# Altium footprint library Connect.PcbLib: 69 footprints (part 4 of 5)
Each footprint in its own frame and in the unit in brackets; x right, y up, seen from the top. Pads: shape width x height; smd on the part's side, far side on the other; paste and mask are expansions set on the pad; w line width, h text height; cw(c..) or ccw(c..) is an arc to the next point about the centre after c.
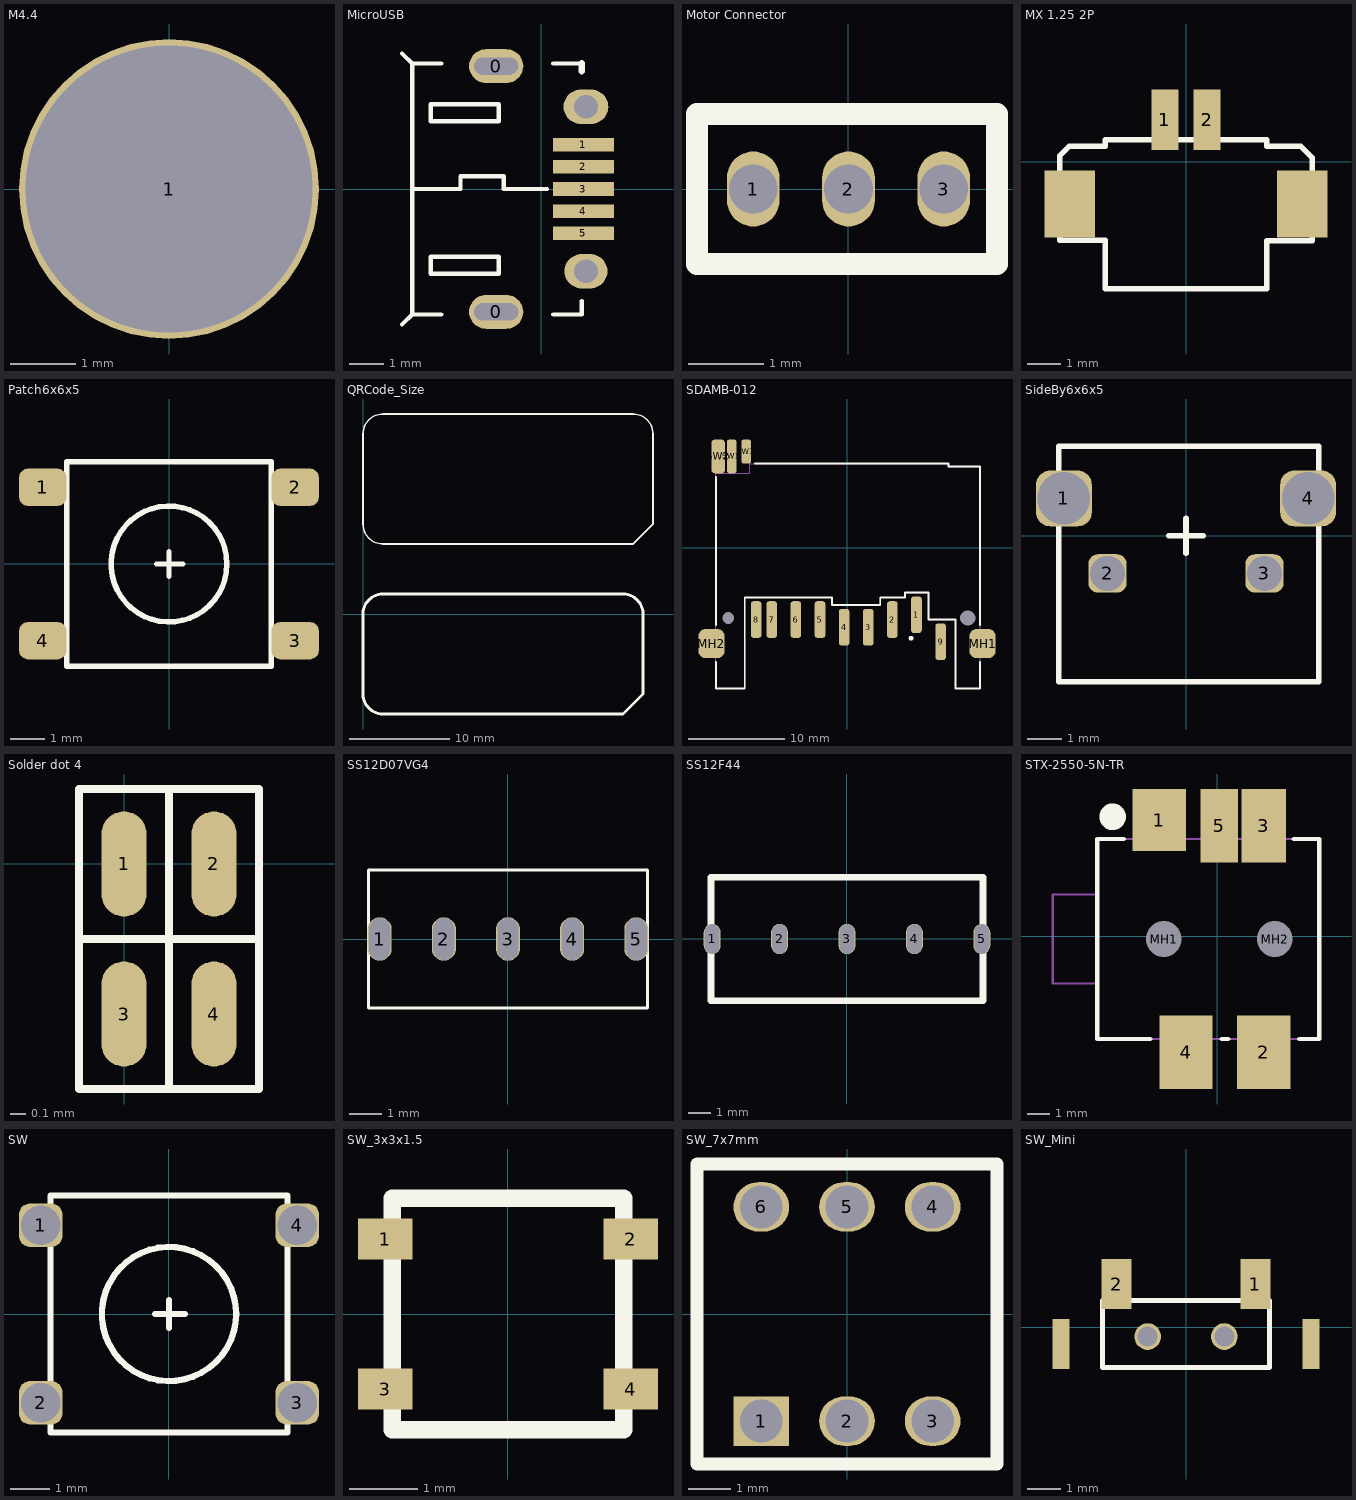
[diagram p3: the footprints below, top view; thin cyan lines are the x and y axes]

## M4.4 [mm]
pads (1):
  round 4.6 hole 4.4: 1(0,0)

## MicroUSB [mm]
pads (9):
  oval 1.6x1 hole 0.5 slot 1.3 at 0 deg unplated: 0(-1.325,-3.625) 0(-1.325,3.625)
  rect 1.8x0.4 smd: 1(1.25,1.3) 2(1.25,0.65) 3(1.25,0) 4(1.25,-0.65) 5(1.25,-1.3)
  oval 1.27x1.016 hole 0.7 unplated: ""(1.325,-2.425)
  oval 1.321x1.016 hole 0.7 unplated: ""(1.325,2.425)
Top Overlay:
  lines w0.127: -4.1,-4 -3.8,-3.7 ; -4.1,4 -3.8,3.7 ; -2.941,-3.7 -3.8,-3.7 ; -2.941,3.7 -3.8,3.7 ; -2.375,0.025 -2.375,0 ; 0.175,0 -1.1,0 -1.1,0.375 -2.375,0.375 -2.375,0 ; 0.361,-3.7 1.2,-3.7 1.2,-3.302 ; 0.361,3.7 1.2,3.7 ; -3.8,-3.7 -3.8,0 ; -3.8,0 -3.8,3.7 ; -3.8,0 -2.375,0 ; -3.25,-2.5 -3.25,-2 -1.25,-2 -1.25,-2.5 -3.25,-2.5 ; -3.25,2 -1.25,2 -1.25,2.5 -3.25,2.5 -3.25,2
  lines w0.2: 1.2,3.479 1.2,3.7
3D body: height 2.99, standoff 0.05, extent -3.62,-3.96 1.81,4.02

## Motor Connector [mm]
pads (3):
  oval 0.7x1 hole 0.65: 1(-1.27,0) 2(0,0) 3(1.27,0)
Top Overlay:
  lines w0.3: -2.02,-1 1.98,-1 1.98,1 -2.02,1 -2.02,-1

## MX 1.25 2P [mm]
pads (4):
  rect 0.8x1.8 smd: 1(-0.625,1.25) 2(0.625,1.25)
  rect 1.5x2 smd: ""(-3.45,-1.25) ""(3.45,-1.25)
Top Overlay:
  lines w0.16: -3.75,-2.32 -3.75,0.18 -3.47,0.46 -2.4,0.46 -2.4,0.66 2.4,0.66 2.4,0.46 3.41,0.46 3.75,0.12 3.75,-2.34 2.4,-2.34 2.4,-3.76 -2.4,-3.76 -2.4,-2.32 -3.75,-2.32
3D body: height 3.5, standoff 0, extent 2.21,-3.79 2.4,-2.35
3D body: height 3.5, standoff 3.3, extent -2.41,-3.79 2.4,0.66
3D body: height 0.2, standoff 0, extent -2.41,-3.79 2.4,0.66
3D body: height 0.8, standoff 0, extent -0.77,0.73 -0.47,1.66
3D body: height 0.8, standoff 0, extent 0.48,0.735 0.78,1.665
3D body: height 3.5, standoff 0, extent -2.41,0.38 2.39,0.66
3D body: height 3.5, standoff 0, extent -3.74,-2.35 -2.306,0.49
3D body: height 3.5, standoff 0, extent 2.4,-2.35 3.75,0.46
3D body: height 2.6, standoff 2.1, extent -0.77,-3.11 -0.47,0.73
3D body: height 2.6, standoff 2.1, extent 0.48,-3.12 0.78,0.72
3D body: height 3.5, standoff 0, extent -2.4,-3.79 -2.21,-2.35

## Patch6x6x5 [mm]
pads (4):
  rrect50% 1.4x1.1 smd: 1(-3.7,2.25) 2(3.7,2.25) 3(3.7,-2.25) 4(-3.7,-2.25)
Top Overlay:
  circle w0.16: c0,0 r1.7
  lines w0.16: -0.356,0 0.402,0 ; 0,-0.356 0,0.356 ; -3,-3 3,-3 3,3 -3,3 -3,-3
3D body: height 0.4, standoff 0, extent -4.134,-2.549 -3.536,-1.951
3D body: height 3, standoff 0, extent -2.997,-2.997 2.997,2.997
3D body: height 5, standoff 3, extent -1.488,-1.497 1.5,1.497
3D body: height 1.3, standoff 0, extent -3.549,-2.549 -2.951,-1.951
3D body: height 1.3, standoff 0, extent -3.549,1.951 -2.951,2.549
3D body: height 0.4, standoff 0, extent -4.134,1.951 -3.536,2.549
3D body: height 1.3, standoff 0, extent 2.933,1.936 3.531,2.535
3D body: height 0.4, standoff 0, extent 3.537,1.936 4.134,2.535
3D body: height 1.3, standoff 0, extent 2.933,-2.535 3.531,-1.936
3D body: height 0.4, standoff 0, extent 3.537,-2.535 4.134,-1.936

## QRCode_Size [mm]
Top Overlay:
  lines w0.15: 27,7 29,9
  lines w0.152: 27,7 2,7 cw(c2,9) 0,9 0,18 cw(c2,18) 2,20 27,20 cw(c27,18) 29,18 29,9
  lines w0.3: 0,-8 ccw(c2,-8) 2,-10 26,-10 28,-8 28,0 ccw(c26,0) 26,2 2,2 ccw(c2,0) 0,0 0,-8

## SDAMB-012 [mm] "Card Type A, SM, 9 Position, Right Angle, Pitch 2.5 mm, Body 23.3 x 27.4 x 3.4 mm (LxWxH)"
height 5.918
pads (16):
  rrect50% 1.1x3.79 smd paste+0.038 mask+0.038: 1(7.2,-6.955) 2(4.7,-7.455) 3(2.2,-8.255) 4(-0.3,-8.255) 5(-2.8,-7.455) 6(-5.3,-7.455) 7(-7.8,-7.455) 8(-9.425,-7.455) 9(9.7,-9.755)
  rrect50% 2.7x3 smd paste+0.038 mask+0.038: MH1(14.05,-9.95) MH2(-14.05,-9.95)
  round 0.9 hole 1.2 unplated paste+0.038 mask+0.038: MH3(-12.3,-7.3)
  round 1.3 hole 1.6 unplated paste+0.038 mask+0.038: MH4(12.5,-7.3)
  rrect50% 1x3.5 smd paste+0.038 mask+0.038: SW1(-11.95,9.45)
  rrect50% 1.4x3.5 smd paste+0.038 mask+0.038: SW2(-13.35,9.45)
  rrect50% 1x2.5 smd paste+0.038 mask+0.038: SW3(-10.45,9.95)
Top Overlay:
  circle w0.25: c6.65,-9.4 r0.125
  lines w0.2: -13.6,-11.85 -13.6,-14.6 -10.6,-14.6 -10.6,-5.155 -1.55,-5.155 -1.55,-5.955 3.45,-5.955 3.45,-5.155 6,-5.155 6,-4.655 8.45,-4.655 8.45,-7.455 11.25,-7.455 11.25,-14.6 13.8,-14.6 13.8,-11.85 ; -13.6,-8.05 -13.6,7.3 ; -9.55,8.7 10.5,8.7 10.5,8.4 13.8,8.4 13.8,-8.05
Mechanical 13:
  lines w0.1: -10.1,7.695 -10.1,8.695 ; -10.1,7.7 -13.6,7.7 -13.6,-14.6 -10.6,-14.6 -10.6,-5.155 -1.55,-5.155 -1.55,-5.955 3.45,-5.955 3.45,-5.155 6,-5.155 6,-4.655 8.45,-4.655 8.45,-7.455 11.25,-7.455 11.25,-14.6 13.8,-14.6 13.8,8.4 10.5,8.4 10.5,8.7 -10.1,8.7
3D body: height 2.79, standoff 0, extent -13.599,-14.599 13.799,8.699
3D body: height 0.03, standoff 0, extent -12.803,-14.707 12.802,3.353

## SideBy6x6x5 [mm]
pads (4):
  rrect50% 1.6x1.6 hole 1.5: 1(-3.5,1.075) 4(3.5,1.075)
  rrect50% 1.1x1.1 hole 1: 2(-2.25,-1.075) 3(2.25,-1.075)
Top Overlay:
  lines w0.16: -1.702,-4.175 cw(c-1.706,-4.179) -1.7,-4.179 ; -0.5,0 0.5,0 ; 0,-0.5 0,0.5 ; 1.7,-4.179 cw(c1.706,-4.179) 1.702,-4.175 ; -3.65,-4.175 -3.65,2.575 3.8,2.575 3.8,-4.175 -3.65,-4.175
3D body: height 1.3, standoff 0, extent -3.799,0.776 -3.201,1.374
3D body: height 1.3, standoff 0, extent -2.549,-1.374 -1.951,-0.776
3D body: height 1.3, standoff 0, extent 3.201,0.776 3.799,1.374
3D body: height 1.3, standoff 0, extent 1.951,-1.374 2.549,-0.776
3D body: height 4.69, standoff 1.3, extent -1.666,-4.922 1.727,-4.222
3D body: height 6, standoff 0, extent -3.632,-4.191 3.785,2.565

## Solder dot 4 [mm]
pads (4):
  oval 0.3x0.7 smd: 1(0,0) 2(0.6,0) 3(0,-1) 4(0.6,-1)
Top Overlay:
  lines w0.051: -0.3,-0.5 0.9,-0.5 ; 0.3,-1.5 0.3,0.5 ; -0.3,-1.5 -0.3,0.5 0.9,0.5 0.9,-1.5 -0.3,-1.5

## SS12D07VG4 [mm]
pads (5):
  oval 0.75x1.35 hole 0.65 slot 1.3 at 90 deg: 1(-4,0) 2(-2,0) 3(0,0) 4(2,0) 5(4,0)
Top Overlay:
  lines w0.102: -4.35,-2.15 -4.35,2.15 4.35,2.15 4.35,-2.15 -4.35,-2.15
3D body: height 5.9, standoff 4.7, extent -2.006,-0.992 0.002,1.024
3D body: height 4.7, standoff 0, extent -4.351,-2.151 4.354,2.146

## SS12F44 [mm]
pads (5):
  oval 0.75x1.35 hole 0.65 slot 1.3 at 90 deg: 1(-6,0) 2(-3,0) 3(0,0) 4(3,0) 5(6,0)
Top Overlay:
  lines w0.3: -6.05,-2.75 6.05,-2.75 6.05,2.75 -6.05,2.75 -6.05,-2.75
3D body: height 11, standoff 6, extent -3,-1.342 0,1.284
3D body: height 6, standoff 0, extent -6.05,-2.75 6.05,2.75

## STX-2550-5N-TR [mm] "STX-2550 Series Surface Mount 2.5mm Audio Jack"
pads (7):
  rect 2.4x2.8 smd paste+0.038 mask+0.038: 1(-2.6,5.225)
  rect 2.4x3.3 smd paste+0.038 mask+0.038: 2(2.1,-5.225) 4(-1.4,-5.225)
  rect 2x3.3 smd paste+0.038 mask+0.038: 3(2.1,4.975)
  rect 1.7x3.3 smd paste+0.038 mask+0.038: 5(0.1,4.975)
  round 1.3 hole 1.6 unplated paste+0.038 mask+0.038: MH1(-2.4,-0.125) MH2(2.6,-0.125)
Top Overlay:
  circle w0.6: c-4.7,5.375 r0.3
  lines w0.2: -4.2,4.375 -5.4,4.375 -5.4,2.125 -5.4,-2.375 -5.4,-4.625 -3,-4.625 ; 0.2,-4.625 0.5,-4.625 ; 3.446,4.375 4.6,4.375 4.6,-4.625 3.7,-4.625
Mechanical 13:
  lines w0.1: -5.4,-4.525 -5.3,-4.625 ; -7.4,-2.125 -7.4,1.875 -5.4,1.875 -5.4,4.375 4.6,4.375 4.6,-4.625 -5.4,-4.625 -5.4,-2.125 -7.4,-2.125
3D body: height 3.5, standoff 0, extent -5.364,0.104 -1.407,4.315
3D body: height 2, standoff 0, extent -7.272,-1.997 -3.387,1.895
3D body: height 4, standoff 0, extent -5.408,-4.618 4.587,4.32

## SW [mm]
pads (4):
  rrect50% 1.1x1.1 hole 1: 1(-3.25,2.25) 2(-3.25,-2.25) 3(3.25,-2.25) 4(3.25,2.25)
Top Overlay:
  circle w0.16: c0,0 r1.7
  lines w0.16: -0.356,0 0.402,0 ; 0,-0.356 0,0.356 ; -3,-3 3,-3 3,3 -3,3 -3,-3
3D body: height 1.3, standoff 0, extent -3.549,1.951 -2.951,2.549
3D body: height 3, standoff 0, extent -2.997,-2.997 2.997,2.997
3D body: height 5, standoff 3, extent -1.488,-1.497 1.5,1.497
3D body: height 1.3, standoff 0, extent 2.951,1.951 3.549,2.549
3D body: height 1.3, standoff 0, extent 2.951,-2.549 3.549,-1.951
3D body: height 1.3, standoff 0, extent -3.549,-2.549 -2.951,-1.951

## SW_3x3x1.5 [mm]
pads (4):
  rect 0.8x0.6 smd: 1(-1.8,1.1) 2(1.8,1.1) 3(-1.8,-1.1) 4(1.8,-1.1)
Top Overlay:
  lines w0.254: -1.7,-1.7 1.7,-1.7 1.7,1.7 -1.7,1.7 -1.7,-1.7
3D body: height 1.2, standoff 0, extent -1.7,-1.7 1.7,1.7
3D body: height 1.5, standoff 1.2, extent -0.893,-0.898 0.9,0.898

## SW_7x7mm [mm]
pads (6):
  rect 1.3x1.15 hole 1: 1(-2,-2.5)
  oval 1.3x1.15 hole 1: 2(0,-2.5) 3(2,-2.5) 4(2,2.5) 5(0,2.5) 6(-2,2.5)
Top Overlay:
  lines w0.3: -3.5,-3.5 -3.5,3.5 3.5,3.5 3.5,-3.5 -3.5,-3.5
3D body: height 12.5, standoff 11.5, extent -1.007,-0.983 0.985,1.013
3D body: height 11.5, standoff 9.5, extent -0.511,-0.484 0.485,0.514
3D body: height 7, standoff 0, extent -3.54,-3.49 3.51,3.52
3D body: height 8, standoff 7, extent -2.01,-1.995 1.98,2.025
3D body: height 9.5, standoff 8, extent -1.007,-0.983 0.985,1.013

## SW_Mini [mm]
pads (6):
  rect 0.9x1.5 smd: 1(2.08,1.3) 2(-2.08,1.3)
  rect 0.5x1.5 smd: ""(-3.75,-0.5) ""(3.75,-0.5)
  round 0.8 hole 0.6: ""(-1.15,-0.277) ""(1.15,-0.277)
Top Overlay:
  lines w0.15: -2.5,-1.2 -2.5,0.8 2.5,0.8 2.5,-1.2 -2.5,-1.2
3D body: height 3.4, standoff -0.8, extent -3.763,-2.277 3.737,1.723